# Altium schematic symbol library VL53L1X.SchLib: 1 symbol
Pins are listed as number, name and electrical type; pins without a type are passive.

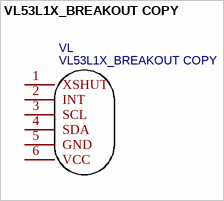
[diagram p0: symbol VL53L1X_BREAKOUT COPY]

## VL53L1X_BREAKOUT COPY
designator VL
Manufacturer Part: VL53L0X Time-of-Flight Distance Sensor VL53L0X; Contributor: freddyka; spicePre: U; spiceSymbolName: VL53L1X_BREAKOUT COPY
footprint VL53L1X_BREAKOUT
pins: 1 XSHUT, 2 INT, 3 SCL, 4 SDA, 5 GND, 6 VCC